# Altium footprint library RS-50.PcbLib: 1 footprints
Each footprint in its own frame and in the unit in brackets; x right, y up, seen from the top. Pads: shape width x height; smd on the part's side, far side on the other; paste and mask are expansions set on the pad; w line width, h text height; cw(c..) or ccw(c..) is an arc to the next point about the centre after c.
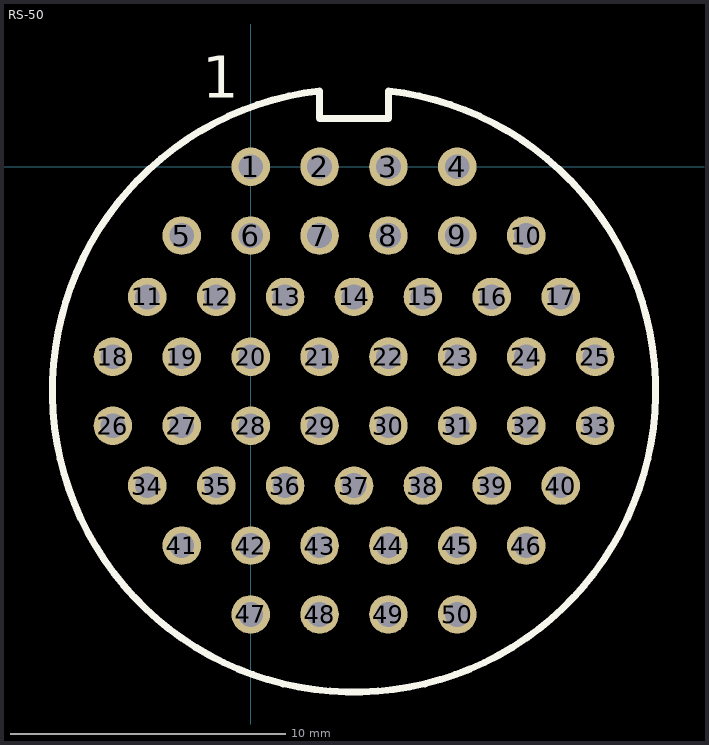
[diagram p0: the footprint, top view; thin cyan lines are the x and y axes]

## RS-50 [mm]
pads (50):
  round 1.4 hole 0.9: 1(0,0) 2(2.5,0) 3(5,0) 4(7.5,0) 5(-2.5,-2.5) 6(0,-2.5) 7(2.5,-2.5) 8(5,-2.5) 9(7.5,-2.5) 10(10,-2.5) 11(-3.75,-4.725) 12(-1.25,-4.725) 13(1.25,-4.725) 14(3.75,-4.725) 15(6.25,-4.725) 16(8.75,-4.725) 17(11.25,-4.725) 18(-5,-6.9) 19(-2.5,-6.9) 20(0,-6.9) 21(2.5,-6.9) 22(5,-6.9) 23(7.5,-6.9) 24(10,-6.9) 25(12.5,-6.9) 26(-5,-9.4) 27(-2.5,-9.4) 28(0,-9.4) 29(2.5,-9.4) 30(5,-9.4) 31(7.5,-9.4) 32(10,-9.4) 33(12.5,-9.4) 34(-3.75,-11.575) 35(-1.25,-11.575) 36(1.25,-11.575) 37(3.75,-11.575) 38(6.25,-11.575) 39(8.75,-11.575) 40(11.25,-11.575) 41(-2.5,-13.75) 42(0,-13.75) 43(2.5,-13.75) 44(5,-13.75) 45(7.5,-13.75) 46(10,-13.75) 47(0,-16.25) 48(2.5,-16.25) 49(5,-16.25) 50(7.5,-16.25)
Top Overlay:
  lines w0.254: 2.5,1.75 2.5,2.75 ccw(c3.75,-8.125) 5,2.75 5,1.75 2.5,1.75
  text "1" at -1.75,2.5 h1.52